# Altium schematic symbol library ANT_Miner_V1.3.SCHLIB: 24 symbols
Pins are listed as number, name and electrical type; pins without a type are passive.

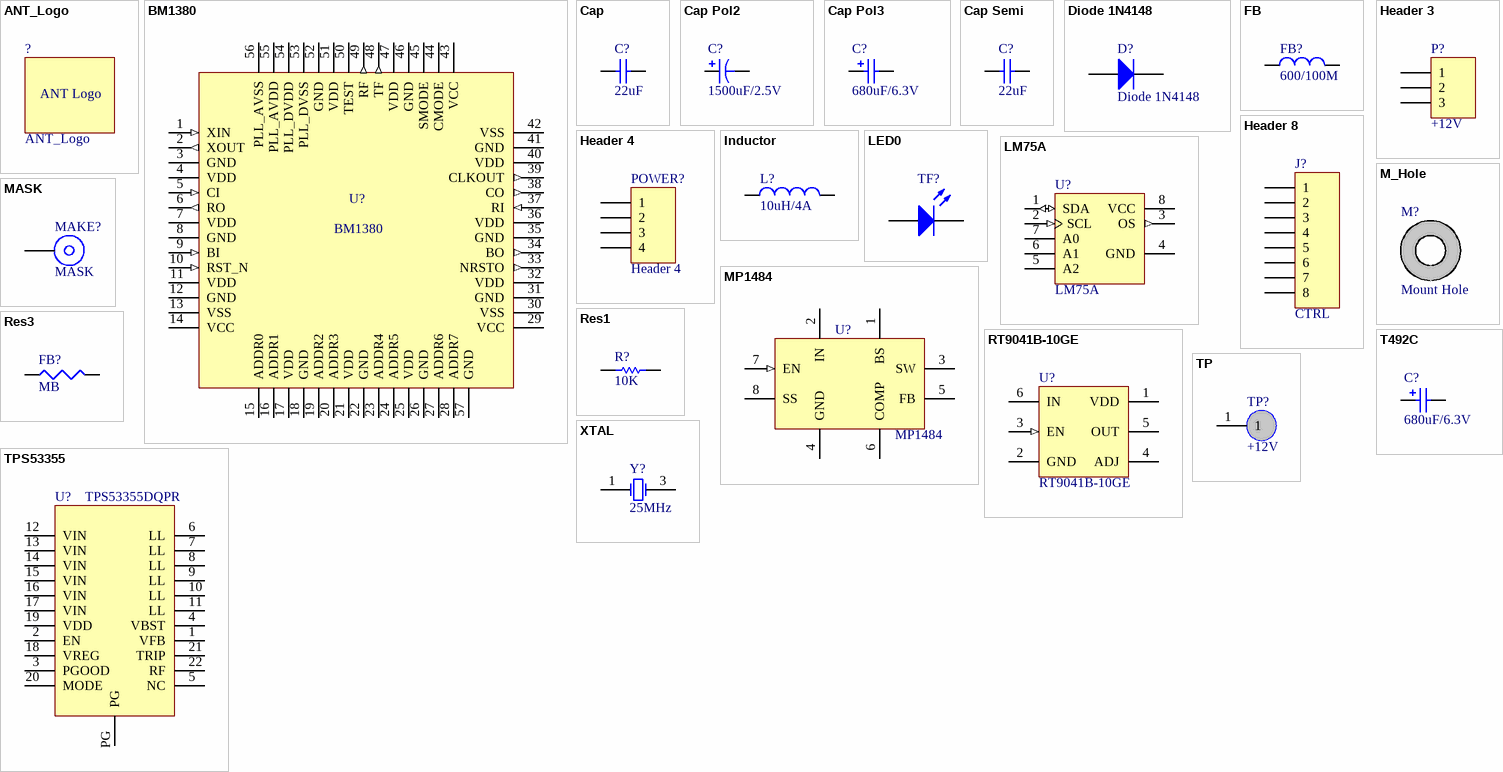
[diagram p0: symbols ANT_Logo to XTAL]

## ANT_Logo
designator ?
footprint ANT_Logo_930x370
text: ANT Logo

## BM1380
designator U?
footprint QFN56
pins: 1 XIN (in), 2 XOUT (out), 3 GND (power), 4 VDD (power), 5 CI (in), 6 RO (out), 7 VDD (power), 8 GND (power), 9 BI (in), 10 RST_N (in), 11 VDD (power), 12 GND (power), 13 VSS (power), 14 VCC (power), 15 ADDR0, 16 ADDR1, 17 VDD (power), 18 GND (power), 19 ADDR2, 20 ADDR3, 21 VDD (power), 22 GND (power), 23 ADDR4, 24 ADDR5, 25 VDD (power), 26 GND (power), 27 ADDR6, 28 ADDR7, 29 VCC (power), 30 VSS (power), 31 GND (power), 32 VDD (power), 33 NRSTO (out), 34 BO (out), 35 GND (power), 36 VDD (power), 37 RI (in), 38 CO (out), 39 CLKOUT (out), 40 VDD (power), 41 GND (power), 42 VSS (power), 43 VCC (power), 44 CMODE, 45 SMODE, 46 GND (power), 47 VDD (power), 48 TF (out), 49 RF (out), 50 TEST, 51 VDD (power), 52 GND (power), 53 PLL_DVSS (power), 54 PLL_DVDD (power), 55 PLL_AVDD (power), 56 PLL_AVSS (power), 57 GND (power)

## Cap
designator C?, comment 22uF
Capacitor; Value: 22uF
footprint CC0603(1608) (Chip Capacitor, Body 1.6x0.8mm, IPC High Density)
footprint CC0805(2012) (Chip Capacitor, Body 2.0x1.3mm, IPC High Density)
footprint CC1210(3225) (Chip Capacitor, Body 3.2x2.5mm, IPC High Density)
pins: 1, 2

## Cap Pol2
designator C?, comment value 1500uF/2.5V  (hidden comment: 1500uF/4V)
Polarized Capacitor (SMD)
footprint E12 (SVP)
footprint F12 (SVP)
pins: 1, 2

## Cap Pol3
designator C?, comment 680uF/6.3V
Polarized Capacitor (Surface Mount); Published: 8-Jun-2000; LatestRevisionDate: 29-May-2009; LatestRevisionNote: IPC-7351 Footprint Added.; PackageReference: C0805; Publisher: Altium Limited; PackageDescription: Chip Capacitor; Value: 680uF/6.3V
footprint D (Capacitor, SM Tantalum; Body 7.3 x 4.3 mm (LxW typ))
footprint 1812 (Chip Capacitor, Body 4.5x3.2mm, IPC High Density)
footprint 1825 (Chip Capacitor, Body 4.5x6.4mm, IPC High Density)
footprint C2225 (Chip Capacitor, Body 5.7x6.4mm, IPC High Density)
footprint 2220 (Chip Capacitor, Body 5.7x5.0mm, IPC High Density)
simulation model CAP (Capacitor)
signal-integrity model Cap Pol
pins: 1, 2
1 alternate drawing of the same symbol

## Cap Semi
designator C?, comment 22uF
Capacitor (Semiconductor SIM Model); Published: 8-Jun-2000; LatestRevisionDate: 29-May-2009; LatestRevisionNote: IPC-7351 Footprint Added.; PackageReference: C1206; Publisher: Altium Limited; PackageDescription: Chip Capacitor; Value: 22uF
footprint C1206 (Chip Capacitor, Body 3.2x1.6mm, IPC High Density)
footprint 0402 (Chip Capacitor, Body 1.0x0.5mm, IPC High Density)
footprint C2512 (Chip Capacitor, Body 2.54x1.27mm, IPC High Density)
footprint 1608[0603] (Chip Capacitor, Body 1.6x0.8mm, IPC High Density)
footprint CAPC3225N (Chip Capacitor, Body 3.2x2.5mm, IPC Medium Density)
simulation model CAP (Semiconductor Capacitor)
signal-integrity model Cap Semi
footprint CAP1210(3225)_TAN
pins: 1, 2

## Diode 1N4148
designator D?
High Conductance Fast Diode; Published: 8-Jun-2000; LatestRevisionDate: 17-Jul-2002; LatestRevisionNote: Re-released for DXP Platform.; DatasheetVersion: 1997; PackageReference: DO-35; Publisher: Altium Limited; PackageDescription: Diode, Axial; Body 3.8 x 1.9 mm (LxDia. max), Lead Dia. 0.53 mm (max); Code_JEDEC: DO-204-AH; ComponentLink1Description: Manufacturer Link; ComponentLink1URL: http://www.fairchildsemi.com/; ComponentLink2Description: Datasheet; ComponentLink2URL: http://www.fairchildsemi.com/ds/1N%2F1N4148.pdf
footprint CD3216-1206 (Chip Diode; Body 3.2 x 1.6 mm (LxW typ))
simulation model 1N4148 (DIODE)
signal-integrity model 1N4148
pins: 1 A, 2 K

## FB
designator FB?, comment 600/100M
Inductor; Code_IEC: 1005; Published: 8-Jun-2000; LatestRevisionDate: 29-May-2009; LatestRevisionNote: IPC-7351 Footprint Added.; PackageReference: 0402-A; Publisher: Altium Limited; PackageDescription: Chip Inductor; Code_JEITA: 0402; Value: 600/100M
simulation model INDUCTOR (Inductor)
signal-integrity model Inductor
footprint FB0603(1608) (Ferrite Bead)
footprint FB0402(1005) (Ferrite Bead)
pins: 1, 2

## Header 3
designator P?, comment +12V
Header, 3-Pin; LatestRevisionDate: 17-Jul-2002; LatestRevisionNote: Re-released for DXP Platform.; Publisher: Altium Limited
footprint HDR1X3 (Connector; Header; 3 Position)
signal-integrity model Connector
footprint TERMINAL_3
pins: 1, 2, 3

## Header 4
designator POWER?
Header, 4-Pin; LatestRevisionDate: 17-Jul-2002; LatestRevisionNote: Re-released for DXP Platform.; Publisher: Altium Limited
signal-integrity model Connector
footprint 4Pin_180
pins: 1, 2, 3, 4

## Header 8
designator J?, comment CTRL
Header, 8-Pin; LatestRevisionDate: 17-Jul-2002; LatestRevisionNote: Re-released for DXP Platform.; Publisher: Altium Limited
signal-integrity model Connector
footprint 8Pin_180
pins: 1, 2, 3, 4, 5, 6, 7, 8

## Inductor
designator L?, comment 10uH/4A
Inductor; Code_IEC: 1005; Published: 8-Jun-2000; LatestRevisionDate: 29-May-2009; LatestRevisionNote: IPC-7351 Footprint Added.; PackageReference: 0402-A; Publisher: Altium Limited; PackageDescription: Chip Inductor; Code_JEITA: 0402; Value: 10uH/4A
footprint 0402-A (Chip Inductor, Body 1.0x0.5mm, IPC High Density)
footprint INDC1608L (Chip Inductor, Body 1.6x0.8mm, IPC High Density)
footprint 2029 (Chip Inductor, Body 2.0x1.2mm, IPC High Density)
footprint 0603 (Chip Inductor, Body 0.6x0.3mm, IPC High Density)
footprint INDC3216 (Chip Inductor, Body 3.2x1.6mm, IPC High Density)
footprint INDC4532 (Chip Inductor, Body 4.5x3.2mm, IPC High Density)
simulation model INDUCTOR (Inductor)
signal-integrity model Inductor
footprint 6-0805_M (Chip Resistor, Body 2.0x1.2mm, IPC Low Density)
footprint 74456047 (WE-PD4 SMD Power Inductor)
footprint SMD_L_12x12
footprint SMD_L_7.0x7.8
footprint SMD_L_7.4x7.4
pins: 1, 2

## LED0
designator TF?, comment Green  (value not drawn)
Typical INFRARED GaAs LED; Published: 8-Jun-2000; LatestRevisionDate: 08-Jul-2005; LatestRevisionNote: Mech Layer 1 removed.; PackageReference: LED-0; Publisher: Altium Limited; PackageDescription: LED; 2 Leads; value: Green
simulation model LED0 (Diode)
footprint DIODE0805
footprint LED0402(1005) (Chip LED Body 1.0x0.5mm, IPC High Density)
footprint LED0603(1608) (Chip LED, Body 1.6x0.8mm, IPC High Density)
pins: 1 A, 2 K

## LM75A
designator U?
NXP Digital temperature sensor and thermal watchdog
footprint SO8_L (Footprint not found)
pins: 1 SDA (io), 2 SCL (in), 3 OS (out), 4 GND (power), 5 A2, 6 A1, 7 A0, 8 VCC

## M_Hole
designator M?, comment Mount Hole
footprint MHOLE1
footprint MHOLE2
footprint HOLE_3.2
pins: 0 PIN (power)

## MASK
designator MAKE?
footprint MASK (SMD MASK 1mm)
pins: 1

## MP1484
designator U?
footprint SOIC8N_L (Footprint not found)
footprint SOIC8L
pins: 0 hidden to GND, 1 BS, 2 IN (power), 3 SW, 4 GND (power), 5 FB, 6 COMP, 7 EN (in), 8 SS

## Res1
designator R?, comment 10K
Resistor; Published: 8-Jun-2000; LatestRevisionDate: 17-Jul-2002; LatestRevisionNote: Re-released for DXP Platform.; PackageReference: AXIAL-0.3; Publisher: Altium Limited; PackageDescription: Axial Device, Thru-Hole; 2 Leads; 0.3 in Pin Spacing; Value: 10K
footprint AXIAL-0.3 (Axial Device, Thru-Hole; 2 Leads; 0.3 in Pin Spacing)
simulation model RESISTOR (Resistor)
signal-integrity model Res
footprint 6-0805_M (Chip Resistor, Body 2.0x1.2mm, IPC Low Density)
footprint LED0603(1608) (Chip LED, Body 1.6x0.8mm, IPC High Density)
footprint RR0603(1608) (Chip Resistor, Body 1.6x0.8mm, IPC High Density)
pins: 1, 2

## Res3
designator FB?, comment MB
Resistor; Published: 8-Jun-2000; LatestRevisionDate: 29-May-2009; LatestRevisionNote: IPC-7351 Footprint Added.; PackageReference: J1-0603; Publisher: Altium Limited; PackageDescription: Chip Resistor; Value: MB
footprint C1206 (Chip Capacitor, Body 3.2x1.6mm, IPC High Density)
footprint 14-1210 (Chip Resistor, Body 3.2x2.5mm, IPC High Density)
footprint 12Z-2010 (Chip Resistor, Body 5.0x2.5mm, IPC High Density)
footprint RESC6332 (Chip Resistor, Body 6.3x3.2mm, IPC High Density)
simulation model RESISTOR (Resistor)
signal-integrity model Res
footprint INDC3216L (Chip Inductor, Body 3.2x1.6mm, IPC High Density)
pins: 1, 2

## RT9041B-10GE
designator U?
footprint SOT23-6_L (Footprint not found)
pins: 1 VDD (power), 2 GND (power), 3 EN (in), 4 ADJ, 5 OUT (power), 6 IN (power)

## T492C
designator C?, comment 680uF/6.3V
Solid Tantalum Chip Capacitor, T492 Series - CWR11 Style Per Mil-PRF-55365/8; Published: 17-Jul-2002; LatestRevisionDate: 19-Mar-2004; LatestRevisionNote: Silkscreen dimensions re-sized.; DatasheetDocument: Mar-2001; PackageDocument: Mar-2001; PackageReference: C; Publisher: Altium Limited; Code_JEITA: 6032-28; ComponentLink1Description: Manufacturer Link; ComponentLink1URL: http://www.kemet.com/; ComponentLink2Description: Datasheet; ComponentLink2URL: http://www.kemet.com/kemet/web/homepage/kechome.nsf/vapubfilesname/F3102TA.pdf/$file/F3102TA.pdf; Value: 680uF/6.3V
footprint C (Capacitor, SM Tantalum; Body 6.0 x 3.2 mm (LxW typ))
simulation model CAP (Capacitor)
signal-integrity model T492C
footprint C (Capacitor, SM Tantalum; Body 6.0 x 3.2 mm (LxW typ))
footprint D (Capacitor, SM Tantalum; Body 7.3 x 4.3 mm (LxW typ))
pins: 1, 2
1 alternate drawing of the same symbol

## TP
designator TP?, comment +12V
footprint TP
pins: 1

## TPS53355
designator U?, comment TPS53355DQPR
TI DC-DC,Output 30A.
footprint TPS53355
pins: 1 VFB, 2 EN, 3 PGOOD, 4 VBST, 5 NC, 6 LL, 7 LL, 8 LL, 9 LL, 10 LL, 11 LL, 12 VIN, 13 VIN, 14 VIN, 15 VIN, 16 VIN, 17 VIN, 18 VREG, 19 VDD, 20 MODE, 21 TRIP, 22 RF, PG

## XTAL
designator Y?, comment 25MHz
Crystal Oscillator; Published: 8-Jun-2000; LatestRevisionDate: 17-Jul-2002; LatestRevisionNote: Re-released for DXP Platform.; PackageReference: R38; Publisher: Altium Limited; PackageDescription: Crystal, Thru-Hole; 2 Leads; Body 3.1 x 8.2 mm (Dia.xH); Value: 25MHz
simulation model XTAL (Spice Subcircuit)
footprint SMX2
pins: 1 OSC1, 3 OSC2